# Altium integrated library National Semiconductor Interface.IntLib: 1433 symbols (part 7 of 51)
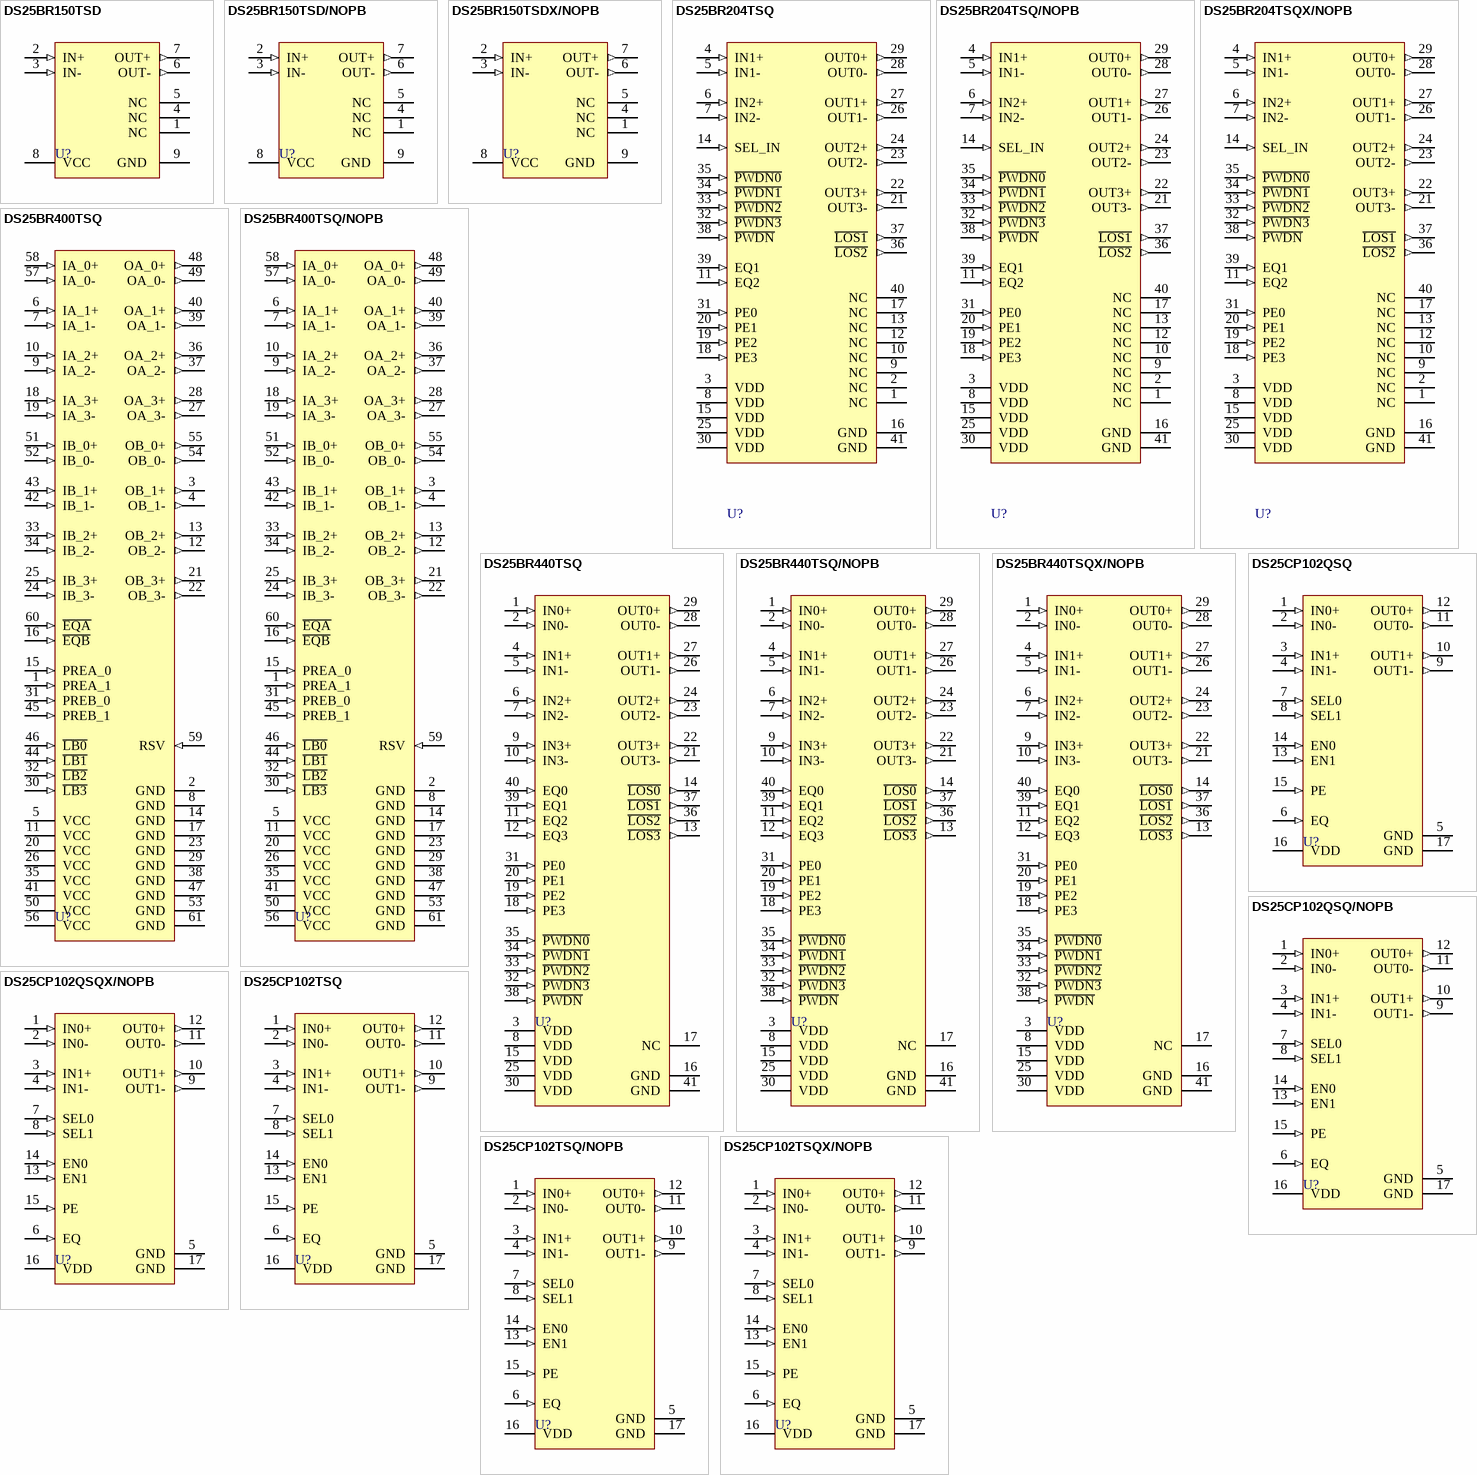
[diagram p130: symbols DS25BR150TSD to DS25CP102TSQX/NOPB]

## DS25BR400TSQ
designator U?
Quad 2.5 Gbps CML Transceiver withTransmit De-Emphasis and Receive Equalization, 60-pin LLP; PartNumber: DS25BR400TSQ; Manufacturer: National Semiconductor; PackageTopMarking: NS*UZXYTTE#*DS25BR400*TSQ; PowerWise: Y; CompType: Interface IC; DatasheetVersion: Feb-2009; PackageVersion: revA, Jun-2005; PackageReference: SQA60A; PackageDescription: LLP, Quad, 9 x 9 x 0.8mm, 60 Lead, 0.5mm Pitch, No Pullback; RoHS: N; PinCount: 60; High-Reliability: Y; ComponentLink1Description: Manufacturer URL; ComponentLink1URL: http://www.national.com/; ComponentLink2Description: DS25BR400 Datasheet; ComponentLink2URL: http://www.national.com/ds/DS/DS25BR400.pdf; ComponentLink3Description: DS25BR400 Web Page; ComponentLink3URL: http://www.national.com/pf/DS/DS25BR400.html; ComponentLink4Description: SQA60A Package Page; ComponentLink4URL: http://www.national.com/packaging/folders/sqa60a.html
footprint SQA60A (QFN, 60-Leads, Body 9x9mm, Pitch 0.5mm, Thermal Pad 7.3x7.3mm, NSC Recommended)
pins: 1 PREA_1 (in), 2 GND (power), 3 OB_1+ (out), 4 OB_1- (out), 5 VCC (power), 6 IA_1+ (in), 7 IA_1- (in), 8 GND (power), 9 IA_2- (in), 10 IA_2+ (in), 11 VCC (power), 12 OB_2- (out), 13 OB_2+ (out), 14 GND (power), 15 PREA_0 (in), 16 ~{EQB} (in), 17 GND (power), 18 IA_3+ (in), 19 IA_3- (in), 20 VCC (power), 21 OB_3+ (out), 22 OB_3- (out), 23 GND (power), 24 IB_3- (in), 25 IB_3+ (in), 26 VCC (power), 27 OA_3- (out), 28 OA_3+ (out), 29 GND (power), 30 ~{LB3} (in), 31 PREB_0 (in), 32 ~{LB2} (in), 33 IB_2+ (in), 34 IB_2- (in), 35 VCC (power), 36 OA_2+ (out), 37 OA_2- (out), 38 GND (power), 39 OA_1- (out), 40 OA_1+ (out), 41 VCC (power), 42 IB_1- (in), 43 IB_1+ (in), 44 ~{LB1} (in), 45 PREB_1 (in), 46 ~{LB0} (in), 47 GND (power), 48 OA_0+ (out), 49 OA_0- (out), 50 VCC (power), 51 IB_0+ (in), 52 IB_0- (in), 53 GND (power), 54 OB_0- (out), 55 OB_0+ (out), 56 VCC (power), 57 IA_0- (in), 58 IA_0+ (in), 59 RSV (in), 60 ~{EQA} (in), 61 GND (power)

## DS25BR400TSQ/NOPB
designator U?
Quad 2.5 Gbps CML Transceiver withTransmit De-Emphasis and Receive Equalization, 60-pin LLP, Pb-Free; PartNumber: DS25BR400TSQ/NOPB; Manufacturer: National Semiconductor; PackageTopMarking: NS*UZXYTTE#*DS25BR400*TSQ; PowerWise: Y; CompType: Interface IC; DatasheetVersion: Feb-2009; PackageVersion: revA, Jun-2005; PackageReference: SQA60A; PackageDescription: LLP, Quad, 9 x 9 x 0.8mm, 60 Lead, 0.5mm Pitch, No Pullback; RoHS: Y; PinCount: 60; High-Reliability: Y; ComponentLink1Description: Manufacturer URL; ComponentLink1URL: http://www.national.com/; ComponentLink2Description: DS25BR400 Datasheet; ComponentLink2URL: http://www.national.com/ds/DS/DS25BR400.pdf; ComponentLink3Description: DS25BR400 Web Page; ComponentLink3URL: http://www.national.com/pf/DS/DS25BR400.html; ComponentLink4Description: SQA60A Package Page; ComponentLink4URL: http://www.national.com/packaging/folders/sqa60a.html
footprint SQA60A (QFN, 60-Leads, Body 9x9mm, Pitch 0.5mm, Thermal Pad 7.3x7.3mm, NSC Recommended)
pins: 1 PREA_1 (in), 2 GND (power), 3 OB_1+ (out), 4 OB_1- (out), 5 VCC (power), 6 IA_1+ (in), 7 IA_1- (in), 8 GND (power), 9 IA_2- (in), 10 IA_2+ (in), 11 VCC (power), 12 OB_2- (out), 13 OB_2+ (out), 14 GND (power), 15 PREA_0 (in), 16 ~{EQB} (in), 17 GND (power), 18 IA_3+ (in), 19 IA_3- (in), 20 VCC (power), 21 OB_3+ (out), 22 OB_3- (out), 23 GND (power), 24 IB_3- (in), 25 IB_3+ (in), 26 VCC (power), 27 OA_3- (out), 28 OA_3+ (out), 29 GND (power), 30 ~{LB3} (in), 31 PREB_0 (in), 32 ~{LB2} (in), 33 IB_2+ (in), 34 IB_2- (in), 35 VCC (power), 36 OA_2+ (out), 37 OA_2- (out), 38 GND (power), 39 OA_1- (out), 40 OA_1+ (out), 41 VCC (power), 42 IB_1- (in), 43 IB_1+ (in), 44 ~{LB1} (in), 45 PREB_1 (in), 46 ~{LB0} (in), 47 GND (power), 48 OA_0+ (out), 49 OA_0- (out), 50 VCC (power), 51 IB_0+ (in), 52 IB_0- (in), 53 GND (power), 54 OB_0- (out), 55 OB_0+ (out), 56 VCC (power), 57 IA_0- (in), 58 IA_0+ (in), 59 RSV (in), 60 ~{EQA} (in), 61 GND (power)

## DS25BR440TSQ
designator U?
3.125 Gbps Quad LVDS Buffer with Transmit Pre-Emphasis and Receive Equalization, 40-pin LLP; PartNumber: DS25BR440TSQ; Manufacturer: National Semiconductor; PackageTopMarking: NS*UZXYTT*2BR440SQ; PowerWise: N; CompType: Interface IC; High-Reliability: Y; DatasheetVersion: Feb-2008; PackageVersion: revB, Mar-2004; PackageReference: SQA40A; PackageDescription: LLP, Plastic, Quad, 6 x 6 x 0.8mm Body, 40 Lead, 0.5mm Pitch, No Pullback; RoHS: Y; PinCount: 40; ComponentLink1Description: Manufacturer URL; ComponentLink1URL: http://www.national.com/; ComponentLink2Description: DS25BR440 Datasheet; ComponentLink2URL: http://www.national.com/ds/DS/DS25BR440.pdf; ComponentLink3Description: DS25BR440 Web Page; ComponentLink3URL: http://www.national.com/pf/DS/DS25BR440.html; ComponentLink4Description: SQA40A Package Page; ComponentLink4URL: http://www.national.com/packaging/folders/sqa40a.html
footprint SQA40A (QFN, 40-Leads, Body 6x6mm, Pitch 0.5mm, Thermal Pad 4.7x4.7mm, NSC Recommended)
pins: 1 IN0+ (in), 2 IN0- (in), 3 VDD (power), 4 IN1+ (in), 5 IN1- (in), 6 IN2+ (in), 7 IN2- (in), 8 VDD (power), 9 IN3+ (in), 10 IN3- (in), 11 EQ2 (in), 12 EQ3 (in), 13 ~{LOS3} (out), 14 ~{LOS0} (out), 15 VDD (power), 16 GND (power), 17 NC, 18 PE3 (in), 19 PE2 (in), 20 PE1 (in), 21 OUT3- (out), 22 OUT3+ (out), 23 OUT2- (out), 24 OUT2+ (out), 25 VDD (power), 26 OUT1- (out), 27 OUT1+ (out), 28 OUT0- (out), 29 OUT0+ (out), 30 VDD (power), 31 PE0 (in), 32 ~{PWDN3} (in), 33 ~{PWDN2} (in), 34 ~{PWDN1} (in), 35 ~{PWDN0} (in), 36 ~{LOS2} (out), 37 ~{LOS1} (out), 38 ~{PWDN} (in), 39 EQ1 (in), 40 EQ0 (in), 41 GND (power)

## DS25BR440TSQ/NOPB
designator U?
3.125 Gbps Quad LVDS Buffer with Transmit Pre-Emphasis and Receive Equalization, 40-pin LLP, Pb-Free; PartNumber: DS25BR440TSQ/NOPB; Manufacturer: National Semiconductor; PackageTopMarking: NS*UZXYTTE#*2BR440SQ; PowerWise: N; CompType: Interface IC; High-Reliability: Y; DatasheetVersion: Feb-2008; PackageVersion: revB, Mar-2004; PackageReference: SQA40A; PackageDescription: LLP, Plastic, Quad, 6 x 6 x 0.8mm Body, 40 Lead, 0.5mm Pitch, No Pullback; RoHS: Y; PinCount: 40; ComponentLink1Description: Manufacturer URL; ComponentLink1URL: http://www.national.com/; ComponentLink2Description: DS25BR440 Datasheet; ComponentLink2URL: http://www.national.com/ds/DS/DS25BR440.pdf; ComponentLink3Description: DS25BR440 Web Page; ComponentLink3URL: http://www.national.com/pf/DS/DS25BR440.html; ComponentLink4Description: SQA40A Package Page; ComponentLink4URL: http://www.national.com/packaging/folders/sqa40a.html
footprint SQA40A (QFN, 40-Leads, Body 6x6mm, Pitch 0.5mm, Thermal Pad 4.7x4.7mm, NSC Recommended)
pins: 1 IN0+ (in), 2 IN0- (in), 3 VDD (power), 4 IN1+ (in), 5 IN1- (in), 6 IN2+ (in), 7 IN2- (in), 8 VDD (power), 9 IN3+ (in), 10 IN3- (in), 11 EQ2 (in), 12 EQ3 (in), 13 ~{LOS3} (out), 14 ~{LOS0} (out), 15 VDD (power), 16 GND (power), 17 NC, 18 PE3 (in), 19 PE2 (in), 20 PE1 (in), 21 OUT3- (out), 22 OUT3+ (out), 23 OUT2- (out), 24 OUT2+ (out), 25 VDD (power), 26 OUT1- (out), 27 OUT1+ (out), 28 OUT0- (out), 29 OUT0+ (out), 30 VDD (power), 31 PE0 (in), 32 ~{PWDN3} (in), 33 ~{PWDN2} (in), 34 ~{PWDN1} (in), 35 ~{PWDN0} (in), 36 ~{LOS2} (out), 37 ~{LOS1} (out), 38 ~{PWDN} (in), 39 EQ1 (in), 40 EQ0 (in), 41 GND (power)

## DS25BR440TSQX/NOPB
designator U?
3.125 Gbps Quad LVDS Buffer with Transmit Pre-Emphasis and Receive Equalization, 40-pin LLP, Pb-Free; PartNumber: DS25BR440TSQX/NOPB; Manufacturer: National Semiconductor; PackageTopMarking: NS*UZXYTTE#*2BR440SQ; PowerWise: N; CompType: Interface IC; High-Reliability: Y; DatasheetVersion: Feb-2008; PackageVersion: revB, Mar-2004; PackageReference: SQA40A; PackageDescription: LLP, Plastic, Quad, 6 x 6 x 0.8mm Body, 40 Lead, 0.5mm Pitch, No Pullback; RoHS: Y; PinCount: 40; ComponentLink1Description: Manufacturer URL; ComponentLink1URL: http://www.national.com/; ComponentLink2Description: DS25BR440 Datasheet; ComponentLink2URL: http://www.national.com/ds/DS/DS25BR440.pdf; ComponentLink3Description: DS25BR440 Web Page; ComponentLink3URL: http://www.national.com/pf/DS/DS25BR440.html; ComponentLink4Description: SQA40A Package Page; ComponentLink4URL: http://www.national.com/packaging/folders/sqa40a.html
footprint SQA40A (QFN, 40-Leads, Body 6x6mm, Pitch 0.5mm, Thermal Pad 4.7x4.7mm, NSC Recommended)
pins: 1 IN0+ (in), 2 IN0- (in), 3 VDD (power), 4 IN1+ (in), 5 IN1- (in), 6 IN2+ (in), 7 IN2- (in), 8 VDD (power), 9 IN3+ (in), 10 IN3- (in), 11 EQ2 (in), 12 EQ3 (in), 13 ~{LOS3} (out), 14 ~{LOS0} (out), 15 VDD (power), 16 GND (power), 17 NC, 18 PE3 (in), 19 PE2 (in), 20 PE1 (in), 21 OUT3- (out), 22 OUT3+ (out), 23 OUT2- (out), 24 OUT2+ (out), 25 VDD (power), 26 OUT1- (out), 27 OUT1+ (out), 28 OUT0- (out), 29 OUT0+ (out), 30 VDD (power), 31 PE0 (in), 32 ~{PWDN3} (in), 33 ~{PWDN2} (in), 34 ~{PWDN1} (in), 35 ~{PWDN0} (in), 36 ~{LOS2} (out), 37 ~{LOS1} (out), 38 ~{PWDN} (in), 39 EQ1 (in), 40 EQ0 (in), 41 GND (power)

## DS25CP102QSQ
designator U?
Automotive 3.125 Gbps 2X2 LVDS Crosspoint Switch with Transmit Pre-Emphasis and Receive Equalization, 16-pin LLP; PartNumber: DS25CP102QSQ; Manufacturer: National Semiconductor; PackageTopMarking: NS*UZXYTT*2C102QS; PowerWise: Y; CompType: Interface IC; DatasheetVersion: Jul-2008; PackageVersion: revA, Oct-2003; PackageReference: SQA16A; PackageDescription: LLP, Plastic, Quad, 4 x 4 x 0.8mm Body, 16 Lead, 0.5mm Pitch, No Pullback; RoHS: Y; PinCount: 16; High-Reliability: Y; ComponentLink1Description: Manufacturer URL; ComponentLink1URL: http://www.national.com/; ComponentLink2Description: DS25CP102Q Datasheet; ComponentLink2URL: http://www.national.com/ds/DS/DS25CP102Q.pdf; ComponentLink3Description: DS25CP102Q Web Page; ComponentLink3URL: http://www.national.com/pf/DS/DS25CP102Q.html; ComponentLink4Description: SQA16A Package Page; ComponentLink4URL: http://www.national.com/packaging/folders/sqa16a.html
footprint SQA16A (QFN, 16-Leads, Body 4x4mm, Pitch 0.5mm, Thermal Pad 2.7x2.7mm, NSC Recommended)
pins: 1 IN0+ (in), 2 IN0- (in), 3 IN1+ (in), 4 IN1- (in), 5 GND (power), 6 EQ (in), 7 SEL0 (in), 8 SEL1 (in), 9 OUT1- (out), 10 OUT1+ (out), 11 OUT0- (out), 12 OUT0+ (out), 13 EN1 (in), 14 EN0 (in), 15 PE (in), 16 VDD (power), 17 GND (power)

## DS25CP102QSQ/NOPB
designator U?
Automotive 3.125 Gbps 2X2 LVDS Crosspoint Switch with Transmit Pre-Emphasis and Receive Equalization, 16-pin LLP, Pb-Free; PartNumber: DS25CP102QSQ/NOPB; Manufacturer: National Semiconductor; PackageTopMarking: NS*UZXYTT*2C102QS; PowerWise: Y; CompType: Interface IC; DatasheetVersion: Jul-2008; PackageVersion: revA, Oct-2003; PackageReference: SQA16A; PackageDescription: LLP, Plastic, Quad, 4 x 4 x 0.8mm Body, 16 Lead, 0.5mm Pitch, No Pullback; RoHS: Y; PinCount: 16; High-Reliability: Y; ComponentLink1Description: Manufacturer URL; ComponentLink1URL: http://www.national.com/; ComponentLink2Description: DS25CP102Q Datasheet; ComponentLink2URL: http://www.national.com/ds/DS/DS25CP102Q.pdf; ComponentLink3Description: DS25CP102Q Web Page; ComponentLink3URL: http://www.national.com/pf/DS/DS25CP102Q.html; ComponentLink4Description: SQA16A Package Page; ComponentLink4URL: http://www.national.com/packaging/folders/sqa16a.html
footprint SQA16A (QFN, 16-Leads, Body 4x4mm, Pitch 0.5mm, Thermal Pad 2.7x2.7mm, NSC Recommended)
pins: 1 IN0+ (in), 2 IN0- (in), 3 IN1+ (in), 4 IN1- (in), 5 GND (power), 6 EQ (in), 7 SEL0 (in), 8 SEL1 (in), 9 OUT1- (out), 10 OUT1+ (out), 11 OUT0- (out), 12 OUT0+ (out), 13 EN1 (in), 14 EN0 (in), 15 PE (in), 16 VDD (power), 17 GND (power)

## DS25CP102QSQX/NOPB
designator U?
Automotive 3.125 Gbps 2X2 LVDS Crosspoint Switch with Transmit Pre-Emphasis and Receive Equalization, 16-pin LLP, Pb-Free; PartNumber: DS25CP102QSQX/NOPB; Manufacturer: National Semiconductor; PackageTopMarking: NS*UZXYTT*2C102QS; PowerWise: Y; CompType: Interface IC; DatasheetVersion: Jul-2008; PackageVersion: revA, Oct-2003; PackageReference: SQA16A; PackageDescription: LLP, Plastic, Quad, 4 x 4 x 0.8mm Body, 16 Lead, 0.5mm Pitch, No Pullback; RoHS: Y; PinCount: 16; High-Reliability: Y; ComponentLink1Description: Manufacturer URL; ComponentLink1URL: http://www.national.com/; ComponentLink2Description: DS25CP102Q Datasheet; ComponentLink2URL: http://www.national.com/ds/DS/DS25CP102Q.pdf; ComponentLink3Description: DS25CP102Q Web Page; ComponentLink3URL: http://www.national.com/pf/DS/DS25CP102Q.html; ComponentLink4Description: SQA16A Package Page; ComponentLink4URL: http://www.national.com/packaging/folders/sqa16a.html
footprint SQA16A (QFN, 16-Leads, Body 4x4mm, Pitch 0.5mm, Thermal Pad 2.7x2.7mm, NSC Recommended)
pins: 1 IN0+ (in), 2 IN0- (in), 3 IN1+ (in), 4 IN1- (in), 5 GND (power), 6 EQ (in), 7 SEL0 (in), 8 SEL1 (in), 9 OUT1- (out), 10 OUT1+ (out), 11 OUT0- (out), 12 OUT0+ (out), 13 EN1 (in), 14 EN0 (in), 15 PE (in), 16 VDD (power), 17 GND (power)

## DS25CP102TSQ
designator U?
3.125 Gbps 2X2 LVDS Crosspoint Switch with Transmit Pre-Emphasis and Receive Equalization, 16-pin LLP; PartNumber: DS25CP102TSQ; Manufacturer: National Semiconductor; PackageTopMarking: NS*UZXYTT*2C102SQ; PowerWise: Y; CompType: Interface IC; DatasheetVersion: Mar-2009; PackageVersion: revA, Oct-2003; PackageReference: SQA16A; PackageDescription: LLP, Plastic, Quad, 4 x 4 x 0.8mm Body, 16 Lead, 0.5mm Pitch, No Pullback; RoHS: Y; PinCount: 16; High-Reliability: Y; ComponentLink1Description: Manufacturer URL; ComponentLink1URL: http://www.national.com/; ComponentLink2Description: DS25CP102 Datasheet; ComponentLink2URL: http://www.national.com/ds/DS/DS25CP102.pdf; ComponentLink3Description: DS25CP102 Web Page; ComponentLink3URL: http://www.national.com/pf/DS/DS25CP102.html; ComponentLink4Description: SQA16A Package Page; ComponentLink4URL: http://www.national.com/packaging/folders/sqa16a.html
footprint SQA16A (QFN, 16-Leads, Body 4x4mm, Pitch 0.5mm, Thermal Pad 2.7x2.7mm, NSC Recommended)
pins: 1 IN0+ (in), 2 IN0- (in), 3 IN1+ (in), 4 IN1- (in), 5 GND (power), 6 EQ (in), 7 SEL0 (in), 8 SEL1 (in), 9 OUT1- (out), 10 OUT1+ (out), 11 OUT0- (out), 12 OUT0+ (out), 13 EN1 (in), 14 EN0 (in), 15 PE (in), 16 VDD (power), 17 GND (power)

## DS25CP102TSQ/NOPB
designator U?
3.125 Gbps 2X2 LVDS Crosspoint Switch with Transmit Pre-Emphasis and Receive Equalization, 16-pin LLP, Pb-Free; PartNumber: DS25CP102TSQ/NOPB; Manufacturer: National Semiconductor; PackageTopMarking: NS*UZXYTT*2C102SQ; PowerWise: Y; CompType: Interface IC; DatasheetVersion: Mar-2009; PackageVersion: revA, Oct-2003; PackageReference: SQA16A; PackageDescription: LLP, Plastic, Quad, 4 x 4 x 0.8mm Body, 16 Lead, 0.5mm Pitch, No Pullback; RoHS: Y; PinCount: 16; High-Reliability: Y; ComponentLink1Description: Manufacturer URL; ComponentLink1URL: http://www.national.com/; ComponentLink2Description: DS25CP102 Datasheet; ComponentLink2URL: http://www.national.com/ds/DS/DS25CP102.pdf; ComponentLink3Description: DS25CP102 Web Page; ComponentLink3URL: http://www.national.com/pf/DS/DS25CP102.html; ComponentLink4Description: SQA16A Package Page; ComponentLink4URL: http://www.national.com/packaging/folders/sqa16a.html
footprint SQA16A (QFN, 16-Leads, Body 4x4mm, Pitch 0.5mm, Thermal Pad 2.7x2.7mm, NSC Recommended)
pins: 1 IN0+ (in), 2 IN0- (in), 3 IN1+ (in), 4 IN1- (in), 5 GND (power), 6 EQ (in), 7 SEL0 (in), 8 SEL1 (in), 9 OUT1- (out), 10 OUT1+ (out), 11 OUT0- (out), 12 OUT0+ (out), 13 EN1 (in), 14 EN0 (in), 15 PE (in), 16 VDD (power), 17 GND (power)

## DS25CP102TSQX/NOPB
designator U?
3.125 Gbps 2X2 LVDS Crosspoint Switch with Transmit Pre-Emphasis and Receive Equalization, 16-pin LLP, Pb-Free; PartNumber: DS25CP102TSQX/NOPB; Manufacturer: National Semiconductor; PackageTopMarking: NS*UZXYTT*2C102SQ; PowerWise: Y; CompType: Interface IC; DatasheetVersion: Mar-2009; PackageVersion: revA, Oct-2003; PackageReference: SQA16A; PackageDescription: LLP, Plastic, Quad, 4 x 4 x 0.8mm Body, 16 Lead, 0.5mm Pitch, No Pullback; RoHS: Y; PinCount: 16; High-Reliability: Y; ComponentLink1Description: Manufacturer URL; ComponentLink1URL: http://www.national.com/; ComponentLink2Description: DS25CP102 Datasheet; ComponentLink2URL: http://www.national.com/ds/DS/DS25CP102.pdf; ComponentLink3Description: DS25CP102 Web Page; ComponentLink3URL: http://www.national.com/pf/DS/DS25CP102.html; ComponentLink4Description: SQA16A Package Page; ComponentLink4URL: http://www.national.com/packaging/folders/sqa16a.html
footprint SQA16A (QFN, 16-Leads, Body 4x4mm, Pitch 0.5mm, Thermal Pad 2.7x2.7mm, NSC Recommended)
pins: 1 IN0+ (in), 2 IN0- (in), 3 IN1+ (in), 4 IN1- (in), 5 GND (power), 6 EQ (in), 7 SEL0 (in), 8 SEL1 (in), 9 OUT1- (out), 10 OUT1+ (out), 11 OUT0- (out), 12 OUT0+ (out), 13 EN1 (in), 14 EN0 (in), 15 PE (in), 16 VDD (power), 17 GND (power)

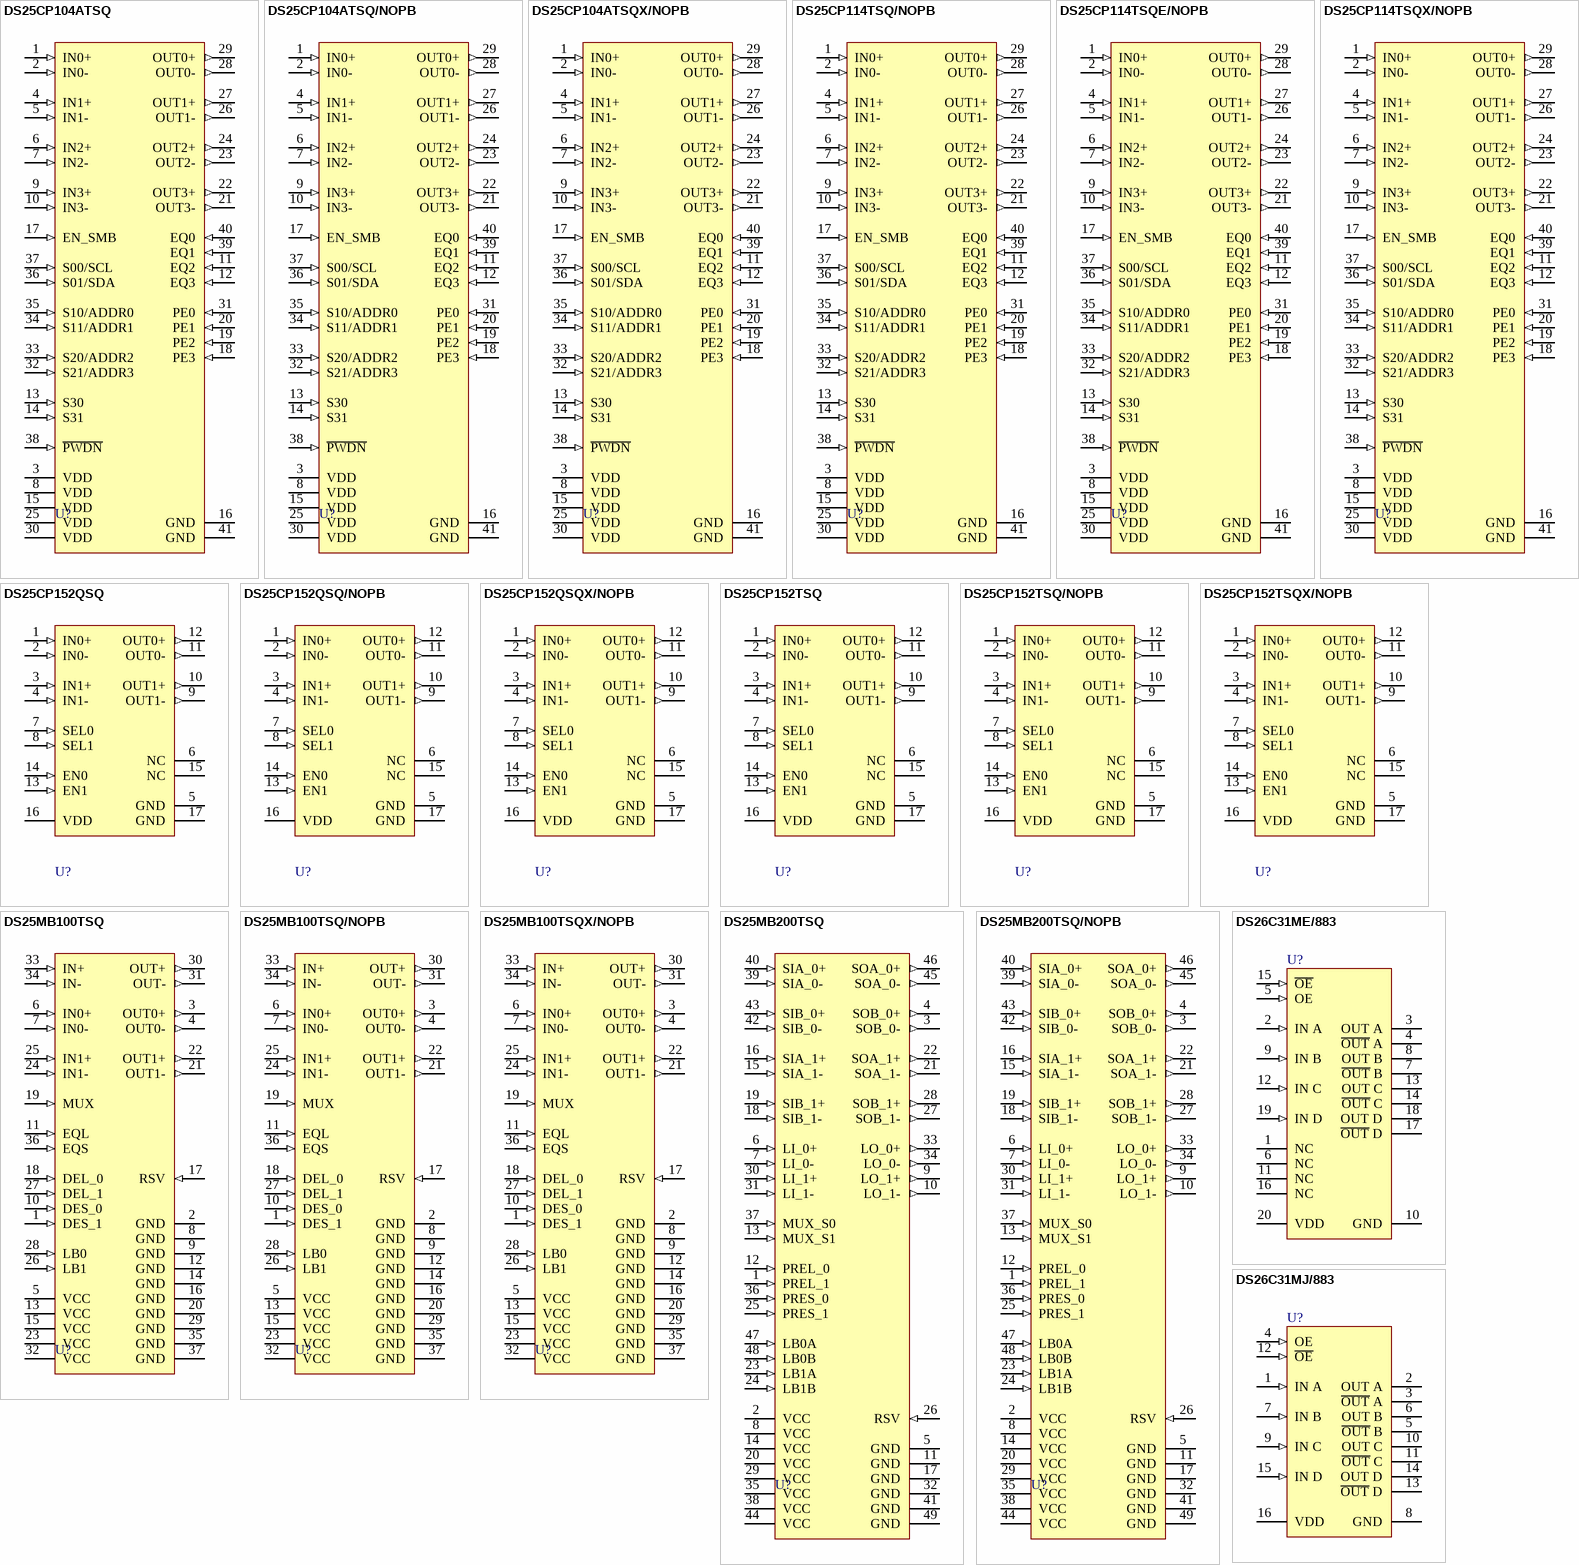
[diagram p20: symbols DS25CP104ATSQ to DS26C31MJ/883]

## DS25CP104ATSQ
designator U?
3.125 Gbps 4x4 LVDS Crosspoint Switch with Transmit Pre-Emphasis and Receive Equalization, 40-pin LLP; PartNumber: DS25CP104ATSQ; Manufacturer: National Semiconductor; PackageTopMarking: NS*UZXYTT*2CP104AS; PowerWise: Y; CompType: Interface IC; DatasheetVersion: Aug-2008; PackageVersion: revB, Mar-2004; PackageReference: SQA40A; PackageDescription: LLP, Plastic, Quad, 6 x 6 x 0.8mm Body, 40 Lead, 0.5mm Pitch, No Pullback; RoHS: Y; PinCount: 40; High-Reliability: Y; ComponentLink1Description: Manufacturer URL; ComponentLink1URL: http://www.national.com/; ComponentLink2Description: DS25CP104A Datasheet; ComponentLink2URL: http://www.national.com/ds/DS/DS25CP104A.pdf; ComponentLink3Description: DS25CP104A Web Page; ComponentLink3URL: http://www.national.com/pf/DS/DS25CP104A.html; ComponentLink4Description: SQA40A Package Page; ComponentLink4URL: http://www.national.com/packaging/folders/sqa40a.html
footprint SQA40A (QFN, 40-Leads, Body 6x6mm, Pitch 0.5mm, Thermal Pad 4.7x4.7mm, NSC Recommended)
pins: 1 IN0+ (in), 2 IN0- (in), 3 VDD (power), 4 IN1+ (in), 5 IN1- (in), 6 IN2+ (in), 7 IN2- (in), 8 VDD (power), 9 IN3+ (in), 10 IN3- (in), 11 EQ2 (in), 12 EQ3 (in), 13 S30 (in), 14 S31 (in), 15 VDD (power), 16 GND (power), 17 EN_SMB (in), 18 PE3 (in), 19 PE2 (in), 20 PE1 (in), 21 OUT3- (out), 22 OUT3+ (out), 23 OUT2- (out), 24 OUT2+ (out), 25 VDD (power), 26 OUT1- (out), 27 OUT1+ (out), 28 OUT0- (out), 29 OUT0+ (out), 30 VDD (power), 31 PE0 (in), 32 S21/ADDR3 (in), 33 S20/ADDR2 (in), 34 S11/ADDR1 (in), 35 S10/ADDR0 (in), 36 S01/SDA (in), 37 S00/SCL (in), 38 ~{PWDN} (in), 39 EQ1 (in), 40 EQ0 (in), 41 GND (power)

## DS25CP104ATSQ/NOPB
designator U?
3.125 Gbps 4x4 LVDS Crosspoint Switch with Transmit Pre-Emphasis and Receive Equalization, 40-pin LLP, Pb-Free; PartNumber: DS25CP104ATSQ/NOPB; Manufacturer: National Semiconductor; PackageTopMarking: NS*UZXYTTE#*2CP104AS; PowerWise: Y; CompType: Interface IC; DatasheetVersion: Aug-2008; PackageVersion: revB, Mar-2004; PackageReference: SQA40A; PackageDescription: LLP, Plastic, Quad, 6 x 6 x 0.8mm Body, 40 Lead, 0.5mm Pitch, No Pullback; RoHS: Y; PinCount: 40; High-Reliability: Y; ComponentLink1Description: Manufacturer URL; ComponentLink1URL: http://www.national.com/; ComponentLink2Description: DS25CP104A Datasheet; ComponentLink2URL: http://www.national.com/ds/DS/DS25CP104A.pdf; ComponentLink3Description: DS25CP104A Web Page; ComponentLink3URL: http://www.national.com/pf/DS/DS25CP104A.html; ComponentLink4Description: SQA40A Package Page; ComponentLink4URL: http://www.national.com/packaging/folders/sqa40a.html
footprint SQA40A (QFN, 40-Leads, Body 6x6mm, Pitch 0.5mm, Thermal Pad 4.7x4.7mm, NSC Recommended)
pins: 1 IN0+ (in), 2 IN0- (in), 3 VDD (power), 4 IN1+ (in), 5 IN1- (in), 6 IN2+ (in), 7 IN2- (in), 8 VDD (power), 9 IN3+ (in), 10 IN3- (in), 11 EQ2 (in), 12 EQ3 (in), 13 S30 (in), 14 S31 (in), 15 VDD (power), 16 GND (power), 17 EN_SMB (in), 18 PE3 (in), 19 PE2 (in), 20 PE1 (in), 21 OUT3- (out), 22 OUT3+ (out), 23 OUT2- (out), 24 OUT2+ (out), 25 VDD (power), 26 OUT1- (out), 27 OUT1+ (out), 28 OUT0- (out), 29 OUT0+ (out), 30 VDD (power), 31 PE0 (in), 32 S21/ADDR3 (in), 33 S20/ADDR2 (in), 34 S11/ADDR1 (in), 35 S10/ADDR0 (in), 36 S01/SDA (in), 37 S00/SCL (in), 38 ~{PWDN} (in), 39 EQ1 (in), 40 EQ0 (in), 41 GND (power)

## DS25CP104ATSQX/NOPB
designator U?
3.125 Gbps 4x4 LVDS Crosspoint Switch with Transmit Pre-Emphasis and Receive Equalization, 40-pin LLP, Pb-Free; PartNumber: DS25CP104ATSQX/NOPB; Manufacturer: National Semiconductor; PackageTopMarking: NS*UZXYTTE#*2CP104AS; PowerWise: Y; CompType: Interface IC; DatasheetVersion: Aug-2008; PackageVersion: revB, Mar-2004; PackageReference: SQA40A; PackageDescription: LLP, Plastic, Quad, 6 x 6 x 0.8mm Body, 40 Lead, 0.5mm Pitch, No Pullback; RoHS: Y; PinCount: 40; High-Reliability: Y; ComponentLink1Description: Manufacturer URL; ComponentLink1URL: http://www.national.com/; ComponentLink2Description: DS25CP104A Datasheet; ComponentLink2URL: http://www.national.com/ds/DS/DS25CP104A.pdf; ComponentLink3Description: DS25CP104A Web Page; ComponentLink3URL: http://www.national.com/pf/DS/DS25CP104A.html; ComponentLink4Description: SQA40A Package Page; ComponentLink4URL: http://www.national.com/packaging/folders/sqa40a.html
footprint SQA40A (QFN, 40-Leads, Body 6x6mm, Pitch 0.5mm, Thermal Pad 4.7x4.7mm, NSC Recommended)
pins: 1 IN0+ (in), 2 IN0- (in), 3 VDD (power), 4 IN1+ (in), 5 IN1- (in), 6 IN2+ (in), 7 IN2- (in), 8 VDD (power), 9 IN3+ (in), 10 IN3- (in), 11 EQ2 (in), 12 EQ3 (in), 13 S30 (in), 14 S31 (in), 15 VDD (power), 16 GND (power), 17 EN_SMB (in), 18 PE3 (in), 19 PE2 (in), 20 PE1 (in), 21 OUT3- (out), 22 OUT3+ (out), 23 OUT2- (out), 24 OUT2+ (out), 25 VDD (power), 26 OUT1- (out), 27 OUT1+ (out), 28 OUT0- (out), 29 OUT0+ (out), 30 VDD (power), 31 PE0 (in), 32 S21/ADDR3 (in), 33 S20/ADDR2 (in), 34 S11/ADDR1 (in), 35 S10/ADDR0 (in), 36 S01/SDA (in), 37 S00/SCL (in), 38 ~{PWDN} (in), 39 EQ1 (in), 40 EQ0 (in), 41 GND (power)

## DS25CP114TSQ/NOPB
designator U?
3.125 Gbps 4x4 LVDS Crosspoint Switch with Transmit Pre-Emphasis and Receive Equalization, 40 pin LLP; PartNumber: DS25CP114TSQ/NOPB; Manufacturer: National Semiconductor; PackageTopMarking: NS*UZXYTTE#*2CP114SQ; PowerWise: Y; CompType: Interface IC; DatasheetVersion: May-2009; PackageVersion: revB, Mar-2004; PackageReference: SQA40A; PackageDescription: LLP, Plastic, Quad, 6 x 6 x 0.8mm Body, 40 Lead, 0.5mm Pitch, No Pullback; RoHS: Y; PinCount: 40; High-Reliability: Y; ComponentLink1Description: Manufacturer URL; ComponentLink1URL: http://www.national.com/; ComponentLink2Description: DS25CP114 Datasheet; ComponentLink2URL: http://www.national.com/ds/DS/DS25CP114.pdf; ComponentLink3Description: DS25CP114 Web Page; ComponentLink3URL: http://www.national.com/pf/DS/DS25CP114.html; ComponentLink4Description: SQA40A Package Page; ComponentLink4URL: http://www.national.com/packaging/folders/sqa40a.html
footprint SQA40A (QFN, 40-Leads, Body 6x6mm, Pitch 0.5mm, Thermal Pad 4.7x4.7mm, NSC Recommended)
pins: 1 IN0+ (in), 2 IN0- (in), 3 VDD (power), 4 IN1+ (in), 5 IN1- (in), 6 IN2+ (in), 7 IN2- (in), 8 VDD (power), 9 IN3+ (in), 10 IN3- (in), 11 EQ2 (in), 12 EQ3 (in), 13 S30 (in), 14 S31 (in), 15 VDD (power), 16 GND (power), 17 EN_SMB (in), 18 PE3 (in), 19 PE2 (in), 20 PE1 (in), 21 OUT3- (out), 22 OUT3+ (out), 23 OUT2- (out), 24 OUT2+ (out), 25 VDD (power), 26 OUT1- (out), 27 OUT1+ (out), 28 OUT0- (out), 29 OUT0+ (out), 30 VDD (power), 31 PE0 (in), 32 S21/ADDR3 (in), 33 S20/ADDR2 (in), 34 S11/ADDR1 (in), 35 S10/ADDR0 (in), 36 S01/SDA (in), 37 S00/SCL (in), 38 ~{PWDN} (in), 39 EQ1 (in), 40 EQ0 (in), 41 GND (power)

## DS25CP114TSQE/NOPB
designator U?
3.125 Gbps 4x4 LVDS Crosspoint Switch with Transmit Pre-Emphasis and Receive Equalization, 40 pin LLP; PartNumber: DS25CP114TSQE/NOPB; Manufacturer: National Semiconductor; PackageTopMarking: NS*UZXYTTE#*2CP114SQ; PowerWise: Y; CompType: Interface IC; DatasheetVersion: May-2009; PackageVersion: revB, Mar-2004; PackageReference: SQA40A; PackageDescription: LLP, Plastic, Quad, 6 x 6 x 0.8mm Body, 40 Lead, 0.5mm Pitch, No Pullback; RoHS: Y; PinCount: 40; High-Reliability: Y; ComponentLink1Description: Manufacturer URL; ComponentLink1URL: http://www.national.com/; ComponentLink2Description: DS25CP114 Datasheet; ComponentLink2URL: http://www.national.com/ds/DS/DS25CP114.pdf; ComponentLink3Description: DS25CP114 Web Page; ComponentLink3URL: http://www.national.com/pf/DS/DS25CP114.html; ComponentLink4Description: SQA40A Package Page; ComponentLink4URL: http://www.national.com/packaging/folders/sqa40a.html
footprint SQA40A (QFN, 40-Leads, Body 6x6mm, Pitch 0.5mm, Thermal Pad 4.7x4.7mm, NSC Recommended)
pins: 1 IN0+ (in), 2 IN0- (in), 3 VDD (power), 4 IN1+ (in), 5 IN1- (in), 6 IN2+ (in), 7 IN2- (in), 8 VDD (power), 9 IN3+ (in), 10 IN3- (in), 11 EQ2 (in), 12 EQ3 (in), 13 S30 (in), 14 S31 (in), 15 VDD (power), 16 GND (power), 17 EN_SMB (in), 18 PE3 (in), 19 PE2 (in), 20 PE1 (in), 21 OUT3- (out), 22 OUT3+ (out), 23 OUT2- (out), 24 OUT2+ (out), 25 VDD (power), 26 OUT1- (out), 27 OUT1+ (out), 28 OUT0- (out), 29 OUT0+ (out), 30 VDD (power), 31 PE0 (in), 32 S21/ADDR3 (in), 33 S20/ADDR2 (in), 34 S11/ADDR1 (in), 35 S10/ADDR0 (in), 36 S01/SDA (in), 37 S00/SCL (in), 38 ~{PWDN} (in), 39 EQ1 (in), 40 EQ0 (in), 41 GND (power)

## DS25CP114TSQX/NOPB
designator U?
3.125 Gbps 4x4 LVDS Crosspoint Switch with Transmit Pre-Emphasis and Receive Equalization, 40 pin LLP; PartNumber: DS25CP114TSQX/NOPB; Manufacturer: National Semiconductor; PackageTopMarking: NS*UZXYTTE#*2CP114SQ; PowerWise: Y; CompType: Interface IC; DatasheetVersion: May-2009; PackageVersion: revB, Mar-2004; PackageReference: SQA40A; PackageDescription: LLP, Plastic, Quad, 6 x 6 x 0.8mm Body, 40 Lead, 0.5mm Pitch, No Pullback; RoHS: Y; PinCount: 40; High-Reliability: Y; ComponentLink1Description: Manufacturer URL; ComponentLink1URL: http://www.national.com/; ComponentLink2Description: DS25CP114 Datasheet; ComponentLink2URL: http://www.national.com/ds/DS/DS25CP114.pdf; ComponentLink3Description: DS25CP114 Web Page; ComponentLink3URL: http://www.national.com/pf/DS/DS25CP114.html; ComponentLink4Description: SQA40A Package Page; ComponentLink4URL: http://www.national.com/packaging/folders/sqa40a.html
footprint SQA40A (QFN, 40-Leads, Body 6x6mm, Pitch 0.5mm, Thermal Pad 4.7x4.7mm, NSC Recommended)
pins: 1 IN0+ (in), 2 IN0- (in), 3 VDD (power), 4 IN1+ (in), 5 IN1- (in), 6 IN2+ (in), 7 IN2- (in), 8 VDD (power), 9 IN3+ (in), 10 IN3- (in), 11 EQ2 (in), 12 EQ3 (in), 13 S30 (in), 14 S31 (in), 15 VDD (power), 16 GND (power), 17 EN_SMB (in), 18 PE3 (in), 19 PE2 (in), 20 PE1 (in), 21 OUT3- (out), 22 OUT3+ (out), 23 OUT2- (out), 24 OUT2+ (out), 25 VDD (power), 26 OUT1- (out), 27 OUT1+ (out), 28 OUT0- (out), 29 OUT0+ (out), 30 VDD (power), 31 PE0 (in), 32 S21/ADDR3 (in), 33 S20/ADDR2 (in), 34 S11/ADDR1 (in), 35 S10/ADDR0 (in), 36 S01/SDA (in), 37 S00/SCL (in), 38 ~{PWDN} (in), 39 EQ1 (in), 40 EQ0 (in), 41 GND (power)

## DS25CP152QSQ
designator U?
Automotive 3.125 Gbps LVDS 2x2 Crosspoint Switch, 16-pin LLP; PartNumber: DS25CP152QSQ; Manufacturer: National Semiconductor; PackageTopMarking: NS*UZXYTT*2C152QS; PowerWise: Y; CompType: Interface IC; DatasheetVersion: Jul-2008; PackageVersion: revA, Oct-2003; PackageReference: SQA16A; PackageDescription: LLP, Plastic, Quad, 4 x 4 x 0.8mm Body, 16 Lead, 0.5mm Pitch, No Pullback; RoHS: Y; PinCount: 16; High-Reliability: Y; ComponentLink1Description: Manufacturer URL; ComponentLink1URL: http://www.national.com/; ComponentLink2Description: DS25CP152Q Datasheet; ComponentLink2URL: http://www.national.com/ds/DS/DS25CP152Q.pdf; ComponentLink3Description: DS25CP152Q Web Page; ComponentLink3URL: http://www.national.com/pf/DS/DS25CP152Q.html; ComponentLink4Description: SQA16A Package Page; ComponentLink4URL: http://www.national.com/packaging/folders/sqa16a.html
footprint SQA16A (QFN, 16-Leads, Body 4x4mm, Pitch 0.5mm, Thermal Pad 2.7x2.7mm, NSC Recommended)
pins: 1 IN0+ (in), 2 IN0- (in), 3 IN1+ (in), 4 IN1- (in), 5 GND (power), 6 NC, 7 SEL0 (in), 8 SEL1 (in), 9 OUT1- (out), 10 OUT1+ (out), 11 OUT0- (out), 12 OUT0+ (out), 13 EN1 (in), 14 EN0 (in), 15 NC, 16 VDD (power), 17 GND (power)

## DS25CP152QSQ/NOPB
designator U?
Automotive 3.125 Gbps LVDS 2x2 Crosspoint Switch, 16-pin LLP, Pb-Free; PartNumber: DS25CP152QSQ/NOPB; Manufacturer: National Semiconductor; PackageTopMarking: NS*UZXYTT*2C152QS; PowerWise: Y; CompType: Interface IC; DatasheetVersion: Jul-2008; PackageVersion: revA, Oct-2003; PackageReference: SQA16A; PackageDescription: LLP, Plastic, Quad, 4 x 4 x 0.8mm Body, 16 Lead, 0.5mm Pitch, No Pullback; RoHS: Y; PinCount: 16; High-Reliability: Y; ComponentLink1Description: Manufacturer URL; ComponentLink1URL: http://www.national.com/; ComponentLink2Description: DS25CP152Q Datasheet; ComponentLink2URL: http://www.national.com/ds/DS/DS25CP152Q.pdf; ComponentLink3Description: DS25CP152Q Web Page; ComponentLink3URL: http://www.national.com/pf/DS/DS25CP152Q.html; ComponentLink4Description: SQA16A Package Page; ComponentLink4URL: http://www.national.com/packaging/folders/sqa16a.html
footprint SQA16A (QFN, 16-Leads, Body 4x4mm, Pitch 0.5mm, Thermal Pad 2.7x2.7mm, NSC Recommended)
pins: 1 IN0+ (in), 2 IN0- (in), 3 IN1+ (in), 4 IN1- (in), 5 GND (power), 6 NC, 7 SEL0 (in), 8 SEL1 (in), 9 OUT1- (out), 10 OUT1+ (out), 11 OUT0- (out), 12 OUT0+ (out), 13 EN1 (in), 14 EN0 (in), 15 NC, 16 VDD (power), 17 GND (power)

## DS25CP152QSQX/NOPB
designator U?
Automotive 3.125 Gbps LVDS 2x2 Crosspoint Switch, 16-pin LLP, Pb-Free; PartNumber: DS25CP152QSQX/NOPB; Manufacturer: National Semiconductor; PackageTopMarking: NS*UZXYTT*2C152QS; PowerWise: Y; CompType: Interface IC; DatasheetVersion: Jul-2008; PackageVersion: revA, Oct-2003; PackageReference: SQA16A; PackageDescription: LLP, Plastic, Quad, 4 x 4 x 0.8mm Body, 16 Lead, 0.5mm Pitch, No Pullback; RoHS: Y; PinCount: 16; High-Reliability: Y; ComponentLink1Description: Manufacturer URL; ComponentLink1URL: http://www.national.com/; ComponentLink2Description: DS25CP152Q Datasheet; ComponentLink2URL: http://www.national.com/ds/DS/DS25CP152Q.pdf; ComponentLink3Description: DS25CP152Q Web Page; ComponentLink3URL: http://www.national.com/pf/DS/DS25CP152Q.html; ComponentLink4Description: SQA16A Package Page; ComponentLink4URL: http://www.national.com/packaging/folders/sqa16a.html
footprint SQA16A (QFN, 16-Leads, Body 4x4mm, Pitch 0.5mm, Thermal Pad 2.7x2.7mm, NSC Recommended)
pins: 1 IN0+ (in), 2 IN0- (in), 3 IN1+ (in), 4 IN1- (in), 5 GND (power), 6 NC, 7 SEL0 (in), 8 SEL1 (in), 9 OUT1- (out), 10 OUT1+ (out), 11 OUT0- (out), 12 OUT0+ (out), 13 EN1 (in), 14 EN0 (in), 15 NC, 16 VDD (power), 17 GND (power)

## DS25CP152TSQ
designator U?
3.125 Gbps LVDS 2x2 Crosspoint Switch, 16-pin LLP; PartNumber: DS25CP152TSQ; Manufacturer: National Semiconductor; PackageTopMarking: NS*UZXYTT*2C152SQ; PowerWise: Y; CompType: Interface IC; DatasheetVersion: Mar-2009; PackageVersion: revA, Oct-2003; PackageReference: SQA16A; PackageDescription: LLP, Plastic, Quad, 4 x 4 x 0.8mm Body, 16 Lead, 0.5mm Pitch, No Pullback; RoHS: Y; PinCount: 16; High-Reliability: Y; ComponentLink1Description: Manufacturer URL; ComponentLink1URL: http://www.national.com/; ComponentLink2Description: DS25CP152 Datasheet; ComponentLink2URL: http://www.national.com/ds/DS/DS25CP152.pdf; ComponentLink3Description: DS25CP152 Web Page; ComponentLink3URL: http://www.national.com/pf/DS/DS25CP152.html; ComponentLink4Description: SQA16A Package Page; ComponentLink4URL: http://www.national.com/packaging/folders/sqa16a.html
footprint SQA16A (QFN, 16-Leads, Body 4x4mm, Pitch 0.5mm, Thermal Pad 2.7x2.7mm, NSC Recommended)
pins: 1 IN0+ (in), 2 IN0- (in), 3 IN1+ (in), 4 IN1- (in), 5 GND (power), 6 NC, 7 SEL0 (in), 8 SEL1 (in), 9 OUT1- (out), 10 OUT1+ (out), 11 OUT0- (out), 12 OUT0+ (out), 13 EN1 (in), 14 EN0 (in), 15 NC, 16 VDD (power), 17 GND (power)

## DS25CP152TSQ/NOPB
designator U?
3.125 Gbps LVDS 2x2 Crosspoint Switch, 16-pin LLP, Pb-Free; PartNumber: DS25CP152TSQ/NOPB; Manufacturer: National Semiconductor; PackageTopMarking: NS*UZXYTT*2C152SQ; PowerWise: Y; CompType: Interface IC; DatasheetVersion: Mar-2009; PackageVersion: revA, Oct-2003; PackageReference: SQA16A; PackageDescription: LLP, Plastic, Quad, 4 x 4 x 0.8mm Body, 16 Lead, 0.5mm Pitch, No Pullback; RoHS: Y; PinCount: 16; High-Reliability: Y; ComponentLink1Description: Manufacturer URL; ComponentLink1URL: http://www.national.com/; ComponentLink2Description: DS25CP152 Datasheet; ComponentLink2URL: http://www.national.com/ds/DS/DS25CP152.pdf; ComponentLink3Description: DS25CP152 Web Page; ComponentLink3URL: http://www.national.com/pf/DS/DS25CP152.html; ComponentLink4Description: SQA16A Package Page; ComponentLink4URL: http://www.national.com/packaging/folders/sqa16a.html
footprint SQA16A (QFN, 16-Leads, Body 4x4mm, Pitch 0.5mm, Thermal Pad 2.7x2.7mm, NSC Recommended)
pins: 1 IN0+ (in), 2 IN0- (in), 3 IN1+ (in), 4 IN1- (in), 5 GND (power), 6 NC, 7 SEL0 (in), 8 SEL1 (in), 9 OUT1- (out), 10 OUT1+ (out), 11 OUT0- (out), 12 OUT0+ (out), 13 EN1 (in), 14 EN0 (in), 15 NC, 16 VDD (power), 17 GND (power)

## DS25CP152TSQX/NOPB
designator U?
3.125 Gbps LVDS 2x2 Crosspoint Switch, 16-pin LLP, Pb-Free; PartNumber: DS25CP152TSQX/NOPB; Manufacturer: National Semiconductor; PackageTopMarking: NS*UZXYTT*2C152SQ; PowerWise: Y; CompType: Interface IC; DatasheetVersion: Mar-2009; PackageVersion: revA, Oct-2003; PackageReference: SQA16A; PackageDescription: LLP, Plastic, Quad, 4 x 4 x 0.8mm Body, 16 Lead, 0.5mm Pitch, No Pullback; RoHS: Y; PinCount: 16; High-Reliability: Y; ComponentLink1Description: Manufacturer URL; ComponentLink1URL: http://www.national.com/; ComponentLink2Description: DS25CP152 Datasheet; ComponentLink2URL: http://www.national.com/ds/DS/DS25CP152.pdf; ComponentLink3Description: DS25CP152 Web Page; ComponentLink3URL: http://www.national.com/pf/DS/DS25CP152.html; ComponentLink4Description: SQA16A Package Page; ComponentLink4URL: http://www.national.com/packaging/folders/sqa16a.html
footprint SQA16A (QFN, 16-Leads, Body 4x4mm, Pitch 0.5mm, Thermal Pad 2.7x2.7mm, NSC Recommended)
pins: 1 IN0+ (in), 2 IN0- (in), 3 IN1+ (in), 4 IN1- (in), 5 GND (power), 6 NC, 7 SEL0 (in), 8 SEL1 (in), 9 OUT1- (out), 10 OUT1+ (out), 11 OUT0- (out), 12 OUT0+ (out), 13 EN1 (in), 14 EN0 (in), 15 NC, 16 VDD (power), 17 GND (power)

## DS25MB100TSQ
designator U?
2.5 Gbps 2:1/1:2 CML Mux/Buffer with Transmit De-Emphasis and Receive Equalization, 36-pin LLP; PartNumber: DS25MB100TSQ; Manufacturer: National Semiconductor; PackageTopMarking: NS*UZXYTT*25MB100; PowerWise: N; CompType: Interface IC; High-Reliability: Y; DatasheetVersion: Feb-2009; PackageVersion: revA, Jun-2003; PackageReference: SQA36A; PackageDescription: LLP, Plastic, Quad, 6 x 6 x 0.8mm Body, 36 Lead, 0.5mm Pitch, No Pullback; RoHS: Y; PinCount: 36; ComponentLink1Description: Manufacturer URL; ComponentLink1URL: http://www.national.com/; ComponentLink2Description: DS25MB100 Datasheet; ComponentLink2URL: http://www.national.com/ds/DS/DS25MB100.pdf; ComponentLink3Description: DS25MB100 Web Page; ComponentLink3URL: http://www.national.com/pf/DS/DS25MB100.html; ComponentLink4Description: SQA36A Package Page; ComponentLink4URL: http://www.national.com/packaging/folders/sqa36a.html
footprint SQA36A (QFN, 36-Leads, Body 6x6mm, Pitch 0.5mm, Thermal Pad 4.7x4.7mm, NSC Recommended)
pins: 1 DES_1 (in), 2 GND (power), 3 OUT0+ (out), 4 OUT0- (out), 5 VCC (power), 6 IN0+ (in), 7 IN0- (in), 8 GND (power), 9 GND (power), 10 DES_0 (in), 11 EQL (in), 12 GND (power), 13 VCC (power), 14 GND (power), 15 VCC (power), 16 GND (power), 17 RSV (in), 18 DEL_0 (in), 19 MUX (in), 20 GND (power), 21 OUT1- (out), 22 OUT1+ (out), 23 VCC (power), 24 IN1- (in), 25 IN1+ (in), 26 LB1 (in), 27 DEL_1 (in), 28 LB0 (in), 29 GND (power), 30 OUT+ (out), 31 OUT- (out), 32 VCC (power), 33 IN+ (in), 34 IN- (in), 35 GND (power), 36 EQS (in), 37 GND (power)

## DS25MB100TSQ/NOPB
designator U?
2.5 Gbps 2:1/1:2 CML Mux/Buffer with Transmit Pre-Emphasis and Receive Equalization, 36-pin LLP, Pb-Free; PartNumber: DS25MB100TSQ/NOPB; Manufacturer: National Semiconductor; PackageTopMarking: NS*UZXYTTE#*25MB100; PowerWise: N; CompType: Interface IC; High-Reliability: Y; DatasheetVersion: Feb-2009; PackageVersion: revA, Jun-2003; PackageReference: SQA36A; PackageDescription: LLP, Plastic, Quad, 6 x 6 x 0.8mm Body, 36 Lead, 0.5mm Pitch, No Pullback; RoHS: Y; PinCount: 36; ComponentLink1Description: Manufacturer URL; ComponentLink1URL: http://www.national.com/; ComponentLink2Description: DS25MB100 Datasheet; ComponentLink2URL: http://www.national.com/ds/DS/DS25MB100.pdf; ComponentLink3Description: DS25MB100 Web Page; ComponentLink3URL: http://www.national.com/pf/DS/DS25MB100.html; ComponentLink4Description: SQA36A Package Page; ComponentLink4URL: http://www.national.com/packaging/folders/sqa36a.html
footprint SQA36A (QFN, 36-Leads, Body 6x6mm, Pitch 0.5mm, Thermal Pad 4.7x4.7mm, NSC Recommended)
pins: 1 DES_1 (in), 2 GND (power), 3 OUT0+ (out), 4 OUT0- (out), 5 VCC (power), 6 IN0+ (in), 7 IN0- (in), 8 GND (power), 9 GND (power), 10 DES_0 (in), 11 EQL (in), 12 GND (power), 13 VCC (power), 14 GND (power), 15 VCC (power), 16 GND (power), 17 RSV (in), 18 DEL_0 (in), 19 MUX (in), 20 GND (power), 21 OUT1- (out), 22 OUT1+ (out), 23 VCC (power), 24 IN1- (in), 25 IN1+ (in), 26 LB1 (in), 27 DEL_1 (in), 28 LB0 (in), 29 GND (power), 30 OUT+ (out), 31 OUT- (out), 32 VCC (power), 33 IN+ (in), 34 IN- (in), 35 GND (power), 36 EQS (in), 37 GND (power)

## DS25MB100TSQX/NOPB
designator U?
2.5 Gbps 2:1/1:2 CML Mux/Buffer with Transmit Pre-Emphasis and Receive Equalization, 36-pin LLP, Pb-Free; PartNumber: DS25MB100TSQX/NOPB; Manufacturer: National Semiconductor; PackageTopMarking: NS*UZXYTTE#*25MB100; PowerWise: N; CompType: Interface IC; High-Reliability: Y; DatasheetVersion: Feb-2009; PackageVersion: revA, Jun-2003; PackageReference: SQA36A; PackageDescription: LLP, Plastic, Quad, 6 x 6 x 0.8mm Body, 36 Lead, 0.5mm Pitch, No Pullback; RoHS: Y; PinCount: 36; ComponentLink1Description: Manufacturer URL; ComponentLink1URL: http://www.national.com/; ComponentLink2Description: DS25MB100 Datasheet; ComponentLink2URL: http://www.national.com/ds/DS/DS25MB100.pdf; ComponentLink3Description: DS25MB100 Web Page; ComponentLink3URL: http://www.national.com/pf/DS/DS25MB100.html; ComponentLink4Description: SQA36A Package Page; ComponentLink4URL: http://www.national.com/packaging/folders/sqa36a.html
footprint SQA36A (QFN, 36-Leads, Body 6x6mm, Pitch 0.5mm, Thermal Pad 4.7x4.7mm, NSC Recommended)
pins: 1 DES_1 (in), 2 GND (power), 3 OUT0+ (out), 4 OUT0- (out), 5 VCC (power), 6 IN0+ (in), 7 IN0- (in), 8 GND (power), 9 GND (power), 10 DES_0 (in), 11 EQL (in), 12 GND (power), 13 VCC (power), 14 GND (power), 15 VCC (power), 16 GND (power), 17 RSV (in), 18 DEL_0 (in), 19 MUX (in), 20 GND (power), 21 OUT1- (out), 22 OUT1+ (out), 23 VCC (power), 24 IN1- (in), 25 IN1+ (in), 26 LB1 (in), 27 DEL_1 (in), 28 LB0 (in), 29 GND (power), 30 OUT+ (out), 31 OUT- (out), 32 VCC (power), 33 IN+ (in), 34 IN- (in), 35 GND (power), 36 EQS (in), 37 GND (power)

## DS25MB200TSQ
designator U?
Dual 2.5 Gbps 2:1/1:2 CML Mux/Buffer with Transmit Pre-Emphasis and Receive Equalization, 48-pin LLP; PartNumber: DS25MB200TSQ; Manufacturer: National Semiconductor; PackageTopMarking: NS*UZXYTTE#*25MB200; PowerWise: N; CompType: Interface IC; High-Reliability: Y; DatasheetVersion: Feb-2009; PackageVersion: revA, Jul-2004; PackageReference: SQA48D; PackageDescription: LLP, Quad, 7 x 7 x 0.8mm, 48 Lead, 0.5mm Pitch, 4.1 x 4.1 Exposed Pad; RoHS: N; PinCount: 48; ComponentLink1Description: Manufacturer URL; ComponentLink1URL: http://www.national.com/; ComponentLink2Description: DS25MB200 Datasheet; ComponentLink2URL: http://www.national.com/ds/DS/DS25MB200.pdf; ComponentLink3Description: DS25MB200 Web Page; ComponentLink3URL: http://www.national.com/pf/DS/DS25MB200.html; ComponentLink4Description: SQA48D Package Page; ComponentLink4URL: http://www.national.com/packaging/folders/sqa48d.html
footprint SQA48D (QFN, 48-Leads, Body 7x7mm, Pitch 0.5mm, Thermal Pad 4.2x4.2mm, NSC Recommended)
pins: 1 PREL_1 (in), 2 VCC (power), 3 SOB_0- (out), 4 SOB_0+ (out), 5 GND (power), 6 LI_0+ (in), 7 LI_0- (in), 8 VCC (power), 9 LO_1+ (out), 10 LO_1- (out), 11 GND (power), 12 PREL_0 (in), 13 MUX_S1 (in), 14 VCC (power), 15 SIA_1- (in), 16 SIA_1+ (in), 17 GND (power), 18 SIB_1- (in), 19 SIB_1+ (in), 20 VCC (power), 21 SOA_1- (out), 22 SOA_1+ (out), 23 LB1A (in), 24 LB1B (in), 25 PRES_1 (in), 26 RSV (in), 27 SOB_1- (out), 28 SOB_1+ (out), 29 VCC (power), 30 LI_1+ (in), 31 LI_1- (in), 32 GND (power), 33 LO_0+ (out), 34 LO_0- (out), 35 VCC (power), 36 PRES_0 (in), 37 MUX_S0 (in), 38 VCC (power), 39 SIA_0- (in), 40 SIA_0+ (in), 41 GND (power), 42 SIB_0- (in), 43 SIB_0+ (in), 44 VCC (power), 45 SOA_0- (out), 46 SOA_0+ (out), 47 LB0A (in), 48 LB0B (in), 49 GND (power)

## DS25MB200TSQ/NOPB
designator U?
Dual 2.5 Gbps 2:1/1:2 CML Mux/Buffer with Transmit Pre-Emphasis and Receive Equalization, 48-pin LLP, Pb-Free; PartNumber: DS25MB200TSQ/NOPB; Manufacturer: National Semiconductor; PackageTopMarking: NS*UZXYTTE#*25MB200; PowerWise: N; CompType: Interface IC; High-Reliability: Y; DatasheetVersion: Feb-2009; PackageVersion: revA, Jul-2004; PackageReference: SQA48D; PackageDescription: LLP, Quad, 7 x 7 x 0.8mm, 48 Lead, 0.5mm Pitch, 4.1 x 4.1 Exposed Pad; RoHS: Y; PinCount: 48; ComponentLink1Description: Manufacturer URL; ComponentLink1URL: http://www.national.com/; ComponentLink2Description: DS25MB200 Datasheet; ComponentLink2URL: http://www.national.com/ds/DS/DS25MB200.pdf; ComponentLink3Description: DS25MB200 Web Page; ComponentLink3URL: http://www.national.com/pf/DS/DS25MB200.html; ComponentLink4Description: SQA48D Package Page; ComponentLink4URL: http://www.national.com/packaging/folders/sqa48d.html
footprint SQA48D (QFN, 48-Leads, Body 7x7mm, Pitch 0.5mm, Thermal Pad 4.2x4.2mm, NSC Recommended)
pins: 1 PREL_1 (in), 2 VCC (power), 3 SOB_0- (out), 4 SOB_0+ (out), 5 GND (power), 6 LI_0+ (in), 7 LI_0- (in), 8 VCC (power), 9 LO_1+ (out), 10 LO_1- (out), 11 GND (power), 12 PREL_0 (in), 13 MUX_S1 (in), 14 VCC (power), 15 SIA_1- (in), 16 SIA_1+ (in), 17 GND (power), 18 SIB_1- (in), 19 SIB_1+ (in), 20 VCC (power), 21 SOA_1- (out), 22 SOA_1+ (out), 23 LB1A (in), 24 LB1B (in), 25 PRES_1 (in), 26 RSV (in), 27 SOB_1- (out), 28 SOB_1+ (out), 29 VCC (power), 30 LI_1+ (in), 31 LI_1- (in), 32 GND (power), 33 LO_0+ (out), 34 LO_0- (out), 35 VCC (power), 36 PRES_0 (in), 37 MUX_S0 (in), 38 VCC (power), 39 SIA_0- (in), 40 SIA_0+ (in), 41 GND (power), 42 SIB_0- (in), 43 SIB_0+ (in), 44 VCC (power), 45 SOA_0- (out), 46 SOA_0+ (out), 47 LB0A (in), 48 LB0B (in), 49 GND (power)

## DS26C31ME/883
designator U?
CMOS Quad Tri-State Differential Line Driver, 20-pin LCC; PartNumber: DS26C31ME/883; Manufacturer: National Semiconductor; PackageTopMarking: NS*ZSSXXYYA*DS26C31ME/*883 Q 5962-*9163901M2A; PowerWise: N; CompType: Interface IC; High-Reliability: Y; DatasheetVersion: Jun-1998; PackageVersion: revF, May-2004; PackageReference: E20A; PackageDescription: Leadless Chip Carrier, Type C, 20 Terminal; RoHS: N; PinCount: 20; Code_JEDEC: MS-004-CB; ComponentLink1Description: Manufacturer URL; ComponentLink1URL: http://www.national.com/; ComponentLink2Description: DS26C31M Datasheet; ComponentLink2URL: http://www.national.com/ds/DS/DS26C31MQML.pdf; ComponentLink3Description: DS26C31M Web Page; ComponentLink3URL: http://www.national.com/pf/DS/DS26C31M.html; ComponentLink4Description: E20A Package Page; ComponentLink4URL: http://www.national.com/packaging/folders/e20a.html
footprint E20A_N (Leadless Chip Carrier, 20-Leads, Body 8.9x8.9mm, Pitch 1.27mm, IPC Medium Density)
footprint E20A_L (Leadless Chip Carrier, 20-Leads, Body 8.9x8.9mm, Pitch 1.27mm, IPC High Density)
footprint E20A_M (Leadless Chip Carrier, 20-Leads, Body 8.9x8.9mm, Pitch 1.27mm, IPC Low Density)
pins: 1 NC, 2 IN A (in), 3 OUT A (hiz), 4 ~{OUT} A (hiz), 5 OE (in), 6 NC, 7 ~{OUT} B (hiz), 8 OUT B (hiz), 9 IN B (in), 10 GND (power), 11 NC, 12 IN C (in), 13 OUT C (hiz), 14 ~{OUT} C (hiz), 15 ~{OE} (in), 16 NC, 17 ~{OUT} D (hiz), 18 OUT D (hiz), 19 IN D (in), 20 VDD (power)

## DS26C31MJ/883
designator U?
CMOS Quad Tri-State Differential Line Driver, 16-pin CerDIP; PartNumber: DS26C31MJ/883; Manufacturer: National Semiconductor; PackageTopMarking: NSZSSXXYYA*DS26C31MJ/883 Q*5962-9163901MEA; PowerWise: N; CompType: Interface IC; High-Reliability: Y; DatasheetVersion: Jun-1998; PackageVersion: revL, Sep-1993; PackageReference: J16A; PackageDescription: Cerdip (J), 16 Lead; RoHS: N; PinCount: 16; ComponentLink1Description: Manufacturer URL; ComponentLink1URL: http://www.national.com/; ComponentLink2Description: DS26C31M Datasheet; ComponentLink2URL: http://www.national.com/ds/DS/DS26C31MQML.pdf; ComponentLink3Description: DS26C31M Web Page; ComponentLink3URL: http://www.national.com/pf/DS/DS26C31M.html; ComponentLink4Description: J16A Package Page; ComponentLink4URL: http://www.national.com/packaging/folders/j16a.html
footprint J16A (DIP, 16-Leads, Row Spacing 7.62mm, Pitch 2.54mm, Body 19.56x6.73mm)
pins: 1 IN A (in), 2 OUT A (hiz), 3 ~{OUT} A (hiz), 4 OE (in), 5 ~{OUT} B (hiz), 6 OUT B (hiz), 7 IN B (in), 8 GND (power), 9 IN C (in), 10 OUT C (hiz), 11 ~{OUT} C (hiz), 12 ~{OE} (in), 13 ~{OUT} D (hiz), 14 OUT D (hiz), 15 IN D (in), 16 VDD (power)

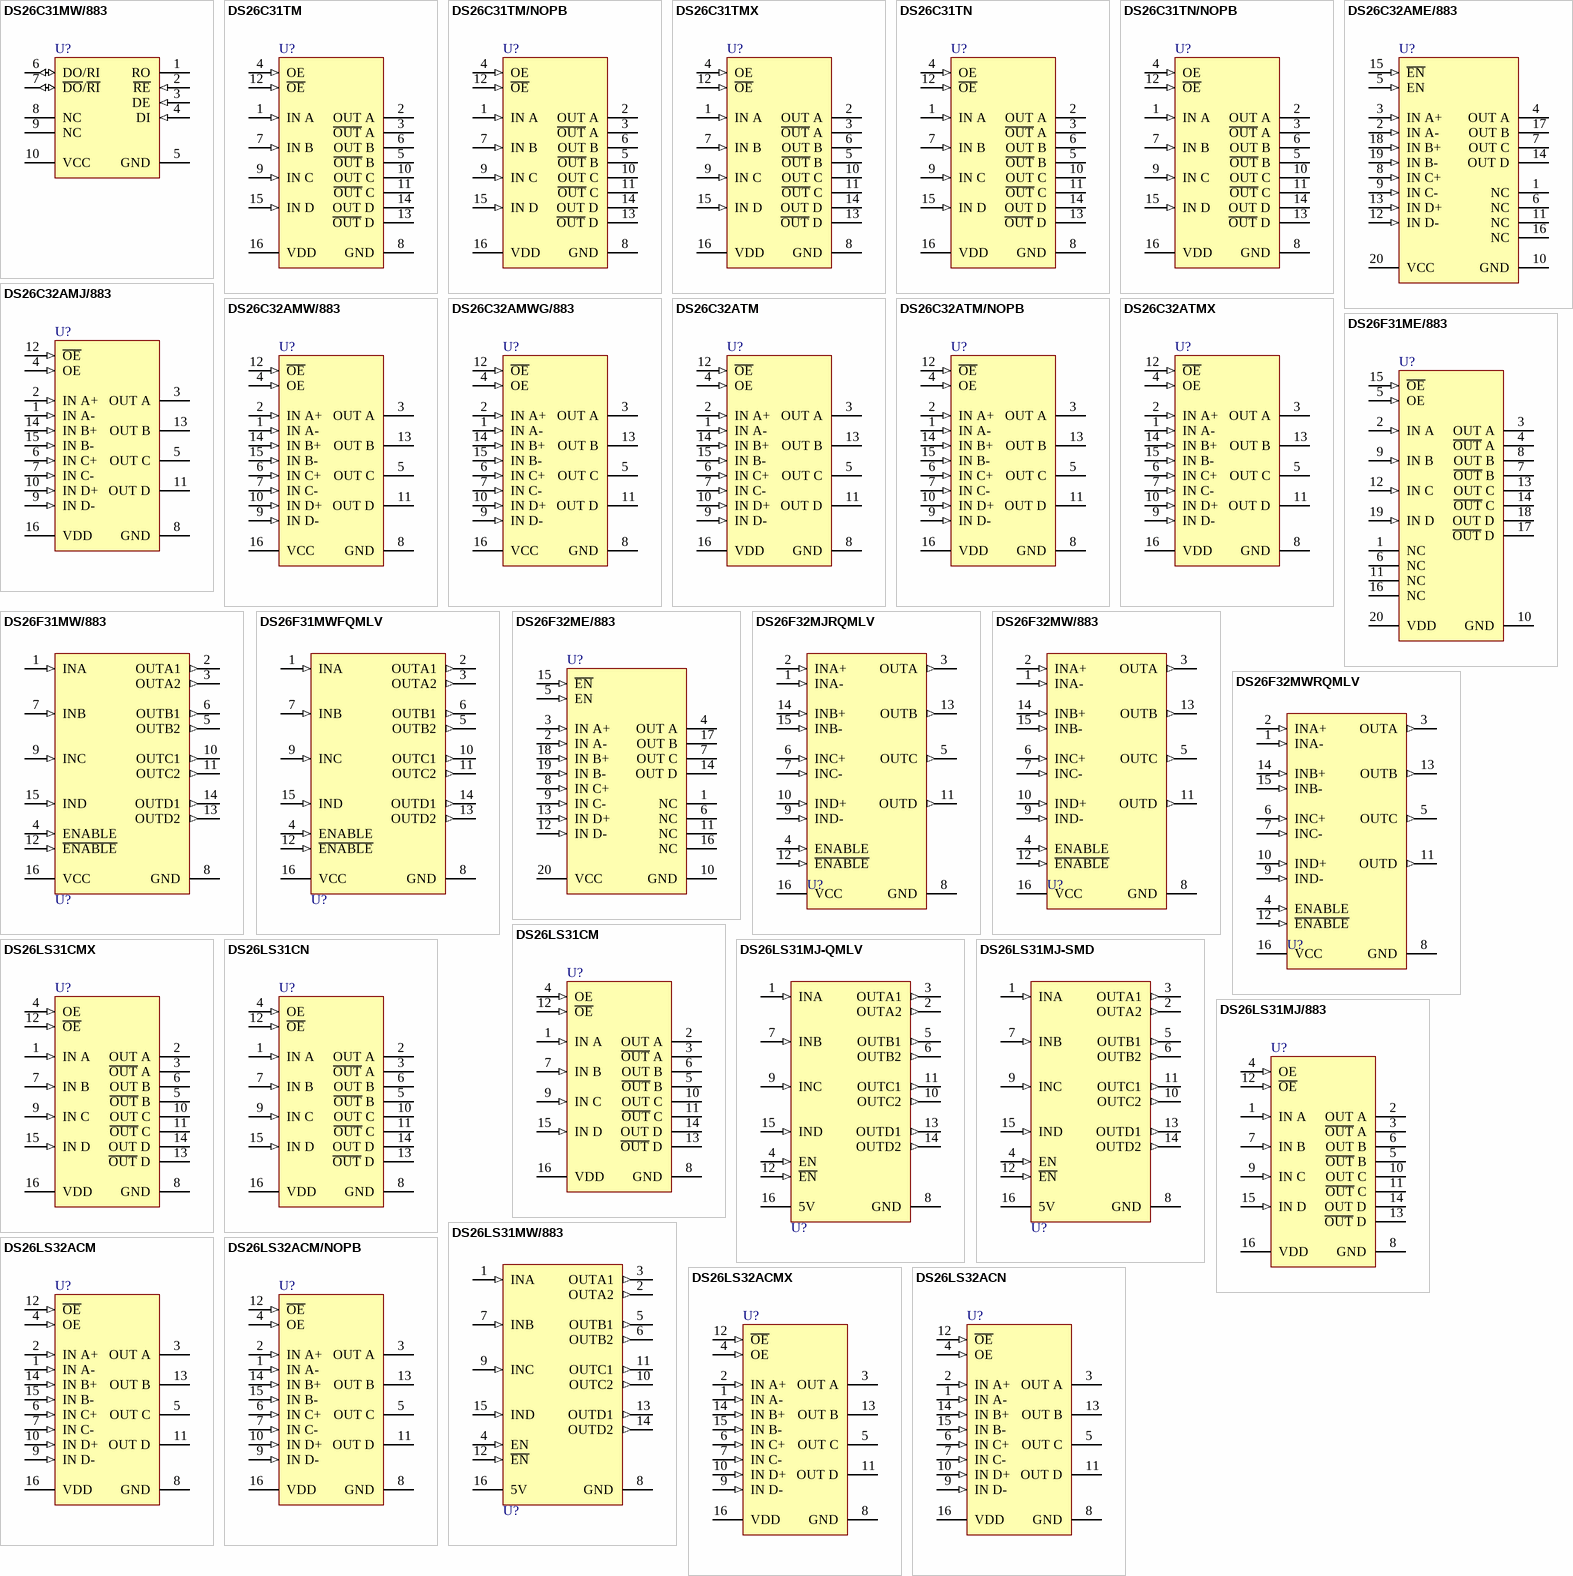
[diagram p21: symbols DS26C31MW/883 to DS26LS32ACN]

## DS26C31MW/883
designator U?
CMOS Quad Tri-State Differential Line Driver, 16-pin CerPACK; PartNumber: DS26C31MW/883; Manufacturer: National Semiconductor; PackageTopMarking: NSZSSXXYYA*DS26C31MW*/883 5962-*9163901MFA*Q; PowerWise: N; CompType: Interface IC; High-Reliability: Y; DatasheetVersion: Jun-1998; PackageVersion: revT, Jul-2005; PackageReference: W16A; PackageDescription: Cerpack, .390 x .250 x .074in Body, 16 Lead, .050in Pitch; RoHS: N; PinCount: 16; Code_JEDEC: MO-092-AC; ComponentLink1Description: Manufacturer URL; ComponentLink1URL: http://www.national.com/; ComponentLink2Description: DS26C31M Datasheet; ComponentLink2URL: http://www.national.com/ds/DS/DS26C31MQML.pdf; ComponentLink3Description: DS26C31M Web Page; ComponentLink3URL: http://www.national.com/pf/DS/DS26C31M.html; ComponentLink4Description: W16A Package Page; ComponentLink4URL: http://www.national.com/packaging/folders/w16a.html
footprint W16A (DFP; 16 Leads; Body 9.9 x 7.6 mm (LxW max); Pitch 1.27 mm)
pins: 1 RO (hiz), 2 ~{RE} (in), 3 DE (in), 4 DI (in), 5 GND (power), 6 DO/RI (io), 7 ~{DO}/~{RI} (io), 8 NC, 9 NC, 10 VCC (power)

## DS26C31TM
designator U?
CMOS Quad Tri-State Differential Line Driver, 16-pin Narrow SOIC; PartNumber: DS26C31TM; Manufacturer: National Semiconductor; PackageTopMarking: NSUZXYTTE#*DS26C31TM; PowerWise: N; CompType: Interface IC; High-Reliability: Y; DatasheetVersion: Jun-1998; PackageVersion: revJ, Aug-1995; PackageReference: M16A; PackageDescription: Molded Package, SO, .150in Wide, 16 Lead; RoHS: N; PinCount: 16; Code_JEDEC: MS-012-AC; Code_IPC: SOIC127P600-16; ComponentLink1Description: Manufacturer URL; ComponentLink1URL: http://www.national.com/; ComponentLink2Description: DS26C31T Datasheet; ComponentLink2URL: http://www.national.com/ds/DS/DS26C31T.pdf; ComponentLink3Description: DS26C31T Web Page; ComponentLink3URL: http://www.national.com/pf/DS/DS26C31T.html; ComponentLink4Description: M16A Package Page; ComponentLink4URL: http://www.national.com/packaging/folders/m16a.html
footprint M16A_N (SOIC, 16-Leads, Body 9.9x3.9mm, Pitch 1.27mm, IPC Medium Density)
footprint M16A_L (SOIC, 16-Leads, Body 9.9x3.9mm, Pitch 1.27mm, IPC High Density)
footprint M16A_M (SOIC, 16-Leads, Body 9.9x3.9mm, Pitch 1.27mm, IPC Low Density)
pins: 1 IN A (in), 2 OUT A (hiz), 3 ~{OUT} A (hiz), 4 OE (in), 5 ~{OUT} B (hiz), 6 OUT B (hiz), 7 IN B (in), 8 GND (power), 9 IN C (in), 10 OUT C (hiz), 11 ~{OUT} C (hiz), 12 ~{OE} (in), 13 ~{OUT} D (hiz), 14 OUT D (hiz), 15 IN D (in), 16 VDD (power)

## DS26C31TM/NOPB
designator U?
CMOS Quad Tri-State Differential Line Drivers, 16-pin Narrow SOIC, Pb-Free; PartNumber: DS26C31TM/NOPB; Manufacturer: National Semiconductor; PackageTopMarking: NSUZXYTTE#*DS26C31TM; PowerWise: N; CompType: Interface IC; High-Reliability: Y; DatasheetVersion: Jun-1998; PackageVersion: revJ, Aug-1995; PackageReference: M16A; PackageDescription: Molded Package, SO, .150in Wide, 16 Lead; RoHS: Y; PinCount: 16; Code_JEDEC: MS-012-AC; Code_IPC: SOIC127P600-16; ComponentLink1Description: Manufacturer URL; ComponentLink1URL: http://www.national.com/; ComponentLink2Description: DS26C31T Datasheet; ComponentLink2URL: http://www.national.com/ds/DS/DS26C31T.pdf; ComponentLink3Description: DS26C31T Web Page; ComponentLink3URL: http://www.national.com/pf/DS/DS26C31T.html; ComponentLink4Description: M16A Package Page; ComponentLink4URL: http://www.national.com/packaging/folders/m16a.html
footprint M16A_N (SOIC, 16-Leads, Body 9.9x3.9mm, Pitch 1.27mm, IPC Medium Density)
footprint M16A_L (SOIC, 16-Leads, Body 9.9x3.9mm, Pitch 1.27mm, IPC High Density)
footprint M16A_M (SOIC, 16-Leads, Body 9.9x3.9mm, Pitch 1.27mm, IPC Low Density)
pins: 1 IN A (in), 2 OUT A (hiz), 3 ~{OUT} A (hiz), 4 OE (in), 5 ~{OUT} B (hiz), 6 OUT B (hiz), 7 IN B (in), 8 GND (power), 9 IN C (in), 10 OUT C (hiz), 11 ~{OUT} C (hiz), 12 ~{OE} (in), 13 ~{OUT} D (hiz), 14 OUT D (hiz), 15 IN D (in), 16 VDD (power)